# EAGLE library part MAX17260SETD+ (library MAX17260SETD_coulomb)
None
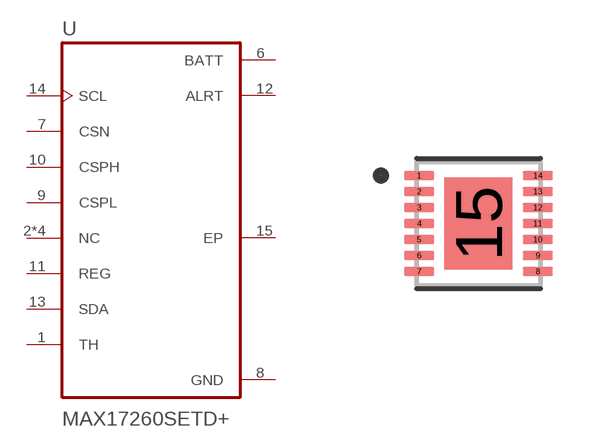
[diagram p0: symbol with the pads of SON40P300X300X80-15N; footprint SON40P300X300X80-15N]

Designator prefix U

## MAX17260SETD+ (AVAILABILITY: Unavailable; DESCRIPTION: Fuel Gauge Li+/LiFePO4 1-Cell 2-Wire Interface 5.1uA 0.4V 14-Pin TDFN-EP Tube; MF: Maxim Integrated; MP: MAX17260SETD+; PACKAGE: TDFN-14 Maxim; PRICE: None)  [SON40P300X300X80-15N]
1  TH
2  NC
3  NC
4  NC
5  NC
6  BATT  pwr
7  CSN
8  GND  pwr
9  CSPL
10  CSPH
11  REG
12  ALRT  out
13  SDA
14  SCL  in
15  EP

## Footprint SON40P300X300X80-15N (pad centres in mm)
smd 0.76 x 0.22: 1 -1.485,1.2; 2 -1.485,0.8; 3 -1.485,0.4; 4 -1.485,0; 5 -1.485,-0.4; 6 -1.485,-0.8; 7 -1.485,-1.2; 8 1.485,-1.2; 9 1.485,-0.8; 10 1.485,-0.4; 11 1.485,0; 12 1.485,0.4; 13 1.485,0.8; 14 1.485,1.2
smd 1.7 x 2.3: 15 0,0